# Altium footprint library PcbLib.PcbLib: 1 footprints
Each footprint in its own frame and in the unit in brackets; x right, y up, seen from the top. Pads: shape width x height; smd on the part's side, far side on the other; paste and mask are expansions set on the pad; w line width, h text height; cw(c..) or ccw(c..) is an arc to the next point about the centre after c.
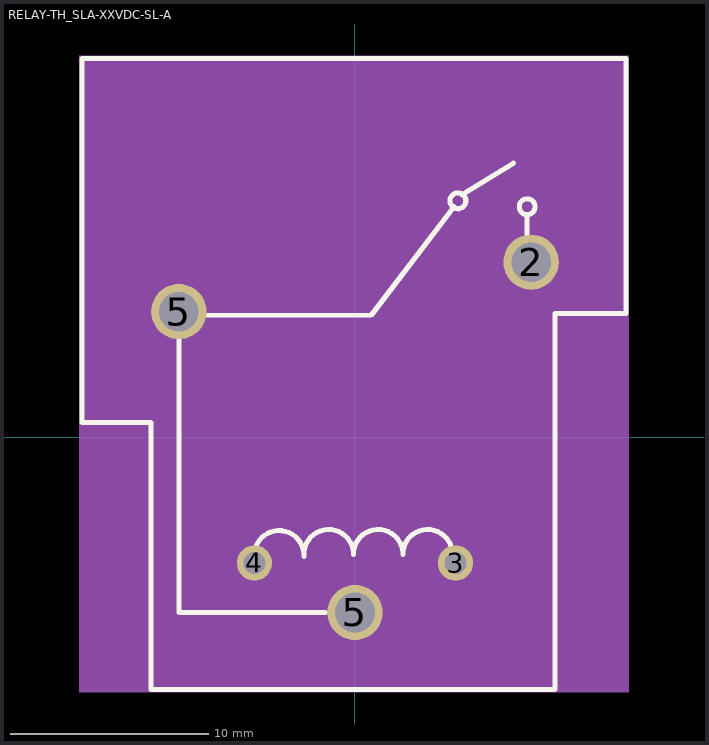
[diagram p0: the footprint, top view; thin cyan lines are the x and y axes]

## RELAY-TH_SLA-XXVDC-SL-A [mil]
pads (5):
  round 110 hole 78.8: 2(350.39,348.42)
  round 70 hole 43.4: 3(200,-249.99) 4(-200,-249.99)
  round 110 hole 78.74: 5(-350.39,250.01) 5(0,-348.42)
Top Overlay:
  circle w10: c342.57,458.71 r15.8
  circle w10: c204.76,470.49 r15.8
  lines w10: -354.3,242.12 32.3,242.91 196.9,458.71 ; -350.39,194.9 -350.39,-348.41 -59.05,-348.41 ; -199.89,-241.27 cw(c-150.86,-234.97) -101.49,-237.36 ; -101.49,-233.47 cw(c-52.25,-232.57) -3.09,-229.57 ; -3.09,-233.47 cw(c46.15,-232.57) 95.31,-229.57 ; 95.31,-233.47 cw(c144.55,-232.57) 193.71,-229.57 ; 212.6,482.31 315,545.32 ; 342.6,387.81 342.6,442.92 ; 397.7,-458.69 397.7,246.12 539.4,246.12 539.4,753.91 -543.3,753.91 -543.3,29.52 -405.5,29.52 -405.5,-501.99 397.7,-501.99 397.7,-423.19
Mechanical 4:
  region: -548.3,758.91 544.4,758.91 544.4,-506.99 -548.3,-506.99
Mechanical 5:
  region: -55,-293.42 55,-293.42 55,-403.42 -55,-403.42
  region: 165,-214.99 235,-214.99 235,-284.99 165,-284.99
  region: -235,-214.99 -165,-214.99 -165,-284.99 -235,-284.99
  region: -405.39,305.01 -295.39,305.01 -295.39,195.01 -405.39,195.01
  region: 295.39,403.42 405.39,403.42 405.39,293.42 295.39,293.42